# Altium schematic symbol library 直插.SchLib: 23 symbols
Pins are listed as number, name and electrical type; pins without a type are passive.

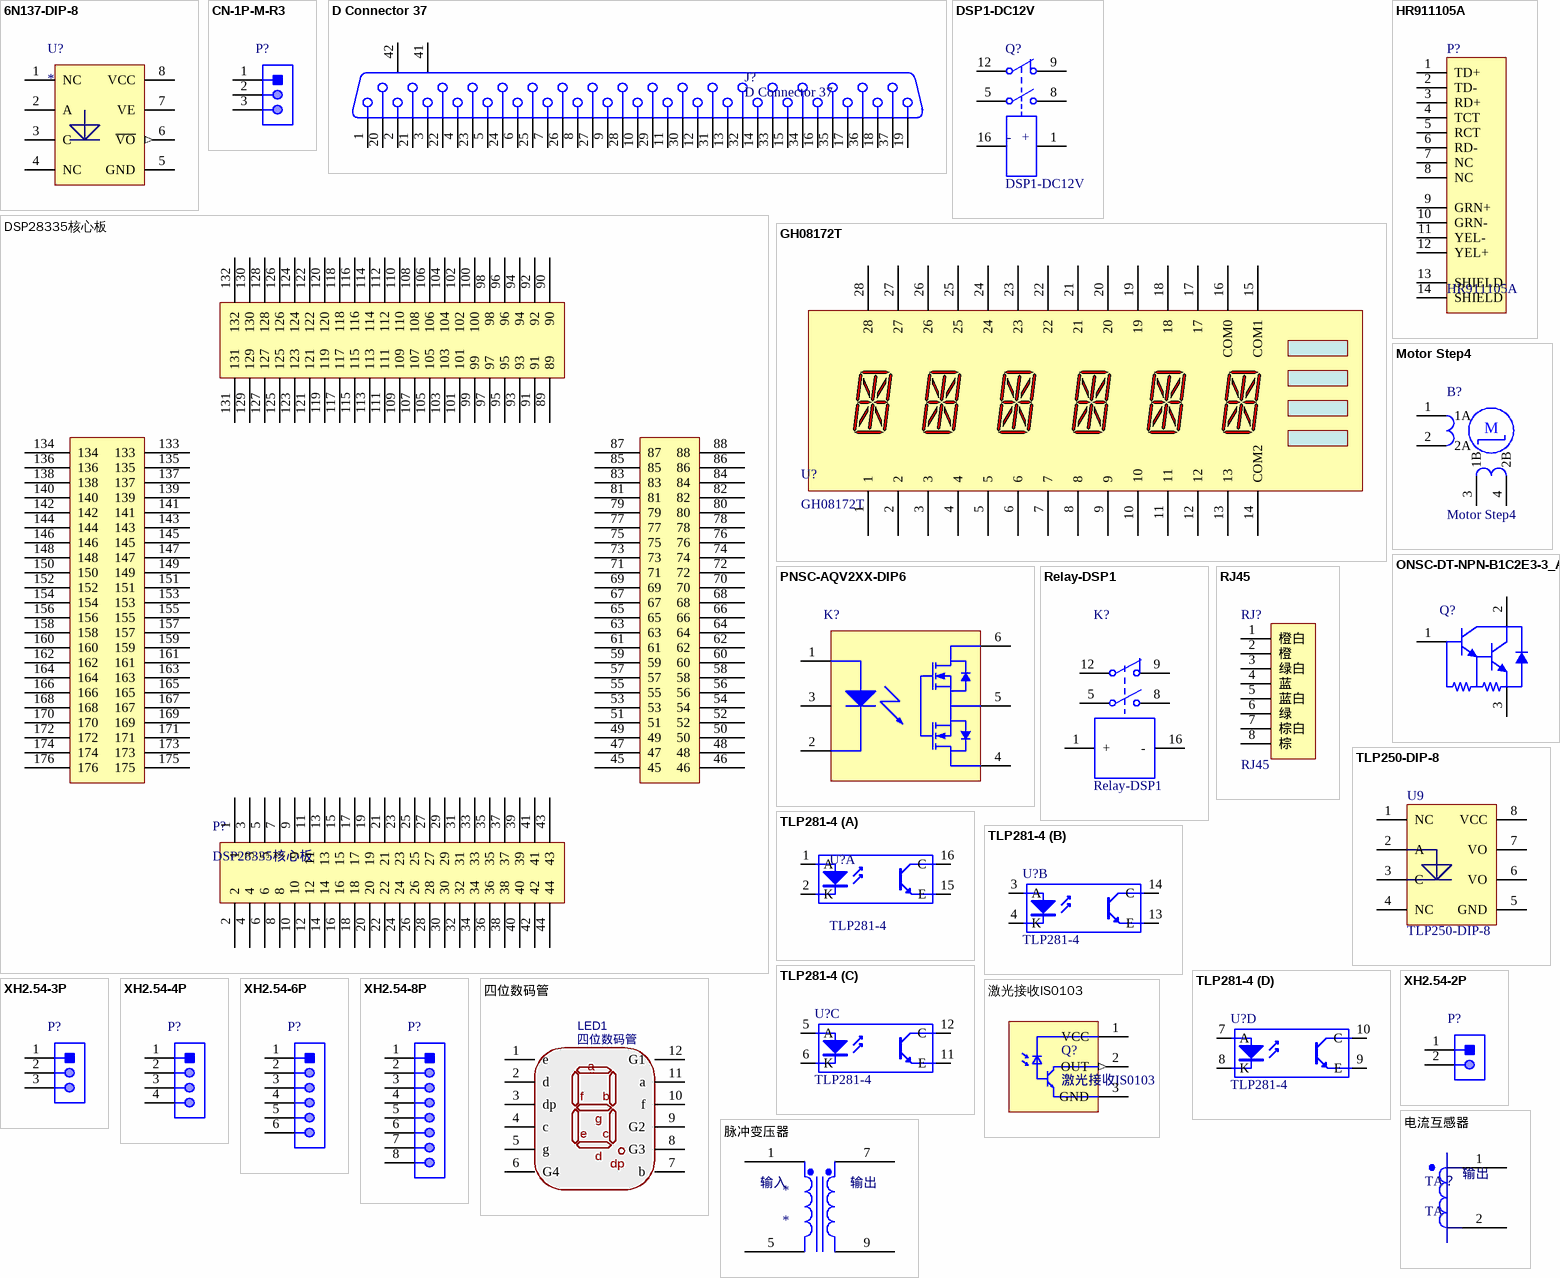
[diagram p0: symbols 6N137-DIP-8 to 脉冲变压器]

## 6N137-DIP-8
designator U?
footprint DIP-8_A (DIP, 8-Leads, Body 10.16x6.85mm, Pitch 2.54mm)
pins: 1 NC, 2 A, 3 C, 4 NC, 5 GND (power), 6 ~{VO} (out), 7 VE (power), 8 VCC (power)

## CN-1P-M-R3
designator P?
pins: 1, 2, 3

## D Connector 37
designator J?
Receptacle Assembly, 25 Position, Right Angle; PackageDocument: U; Positions: 37; Published: 15-Jun-2001; LatestRevisionDate: 17-Jul-2002; LatestRevisionNote: Re-released for DXP Platform.; DatasheetDocument: 19-Mar-1999; PackageReference: 787202; Publisher: Altium Limited; Orientation: Right Angle; Gender: Receptacle
footprint DB37/F
signal-integrity model Connector
pins: 1, 2, 3, 4, 5, 6, 7, 8, 9, 10, 11, 12, 13, 14, 15, 16, 17, 18, 19, 20, 21, 22, 23, 24, 25, 26, 27, 28, 29, 30, 31, 32, 33, 34, 35, 36, 37, 41 MH1, 42 MH2

## DSP1-DC12V
designator Q?
Dual-Pole Single-Throw Relay; Published: 24-Mar-1999; LatestRevisionDate: 17-Jul-2002; LatestRevisionNote: Re-released for DXP Platform.; PackageReference: MODULE6; Publisher: Altium Limited
footprint DSP1-DC12V
simulation model DPSTRELAY (Spice Subcircuit)
pins: 1, 5, 8, 9, 12, 16
text: -; +

## DSP28335核心板
designator P?
pins: 1, 2, 3, 4, 5, 6, 7, 8, 9, 10, 11, 12, 13, 14, 15, 16, 17, 18, 19, 20, 21, 22, 23, 24, 25, 26, 27, 28, 29, 30, 31, 32, 33, 34, 35, 36, 37, 38, 39, 40, 41, 42, 43, 44, 45, 46, 47, 48, 49, 50, 51, 52, 53, 54, 55, 56, 57, 58, 59, 60, 61, 62, 63, 64, 65, 66, 67, 68, 69, 70, 71, 72, 73, 74, 75, 76, 77, 78, 79, 80, 81, 82, 83, 84, 85, 86, 87, 88, 89, 90, 91, 92, 93, 94, 95, 96, 97, 98, 99, 100, 101, 102, 103, 104, 105, 106, 107, 108, 109, 110, 111, 112, 113, 114, 115, 116, 117, 118, 119, 120, 121, 122, 123, 124, 125, 126, 127, 128, 129, 130, 131, 132, 133, 134, 135, 136, 137, 138, 139, 140, 141, 142, 143, 144, 145, 146, 147, 148, 149, 150, 151, 152, 153, 154, 155, 156, 157, 158, 159, 160, 161, 162, 163, 164, 165, 166, 167, 168, 169, 170, 171, 172, 173, 174, 175, 176

## GH08172T
designator U?
footprint GH08172T
pins: 1, 2, 3, 4, 5, 6, 7, 8, 9, 10, 11, 12, 13, 14 COM2, 15 COM1, 16 COM0, 17, 18, 19, 20, 21, 22, 23, 24, 25, 26, 27, 28

## HR911105A
designator P?
HR911105A RJ45 带灯 网络隔离变压器 滤波器; LatestRevisionDate: 17-Jul-2002; LatestRevisionNote: Re-released for DXP Platform.; Publisher: Altium Limited
footprint HR911105A (HR911105A RJ45 带灯 网络隔离变压器 滤波器)
signal-integrity model Connector
pins: 1 TD+, 2 TD-, 3 RD+, 4 TCT, 5 RCT, 6 RD-, 7 NC, 8 NC, 9 GRN+, 10 GRN-, 11 YEL-, 12 YEL+, 13 SHIELD, 14 SHIELD

## Motor Step4
designator B?
Motor Stepper; Published: 24-Mar-1999; LatestRevisionDate: 17-Jul-2002; LatestRevisionNote: Re-released for DXP Platform.; PackageReference: DIP-6; Publisher: Altium Limited; Code_JEDEC: MO-001-AM
footprint DIP-4 (Footprint not found)
pins: 1 1A, 2 2A, 3 1B, 4 2B
text: M

## ONSC-DT-NPN-B1C2E3-3_A
designator Q?
TIP122
footprint ONSC-TO-220-3-221A-09 (FM, 3-Leads, Body 10.3x4.85mm, Pitch 2.54mm)
pins: 1 B, 2 C, 3 E

## PNSC-AQV2XX-DIP6
designator K?
footprint PNSC-DIP6_V (DIP, 6-Leads, Body 6.45x8.85 mm, Pitch2.54 mm)
pins: 1, 2, 3, 4, 5, 6

## Relay-DSP1
designator K?
Dual-Pole Dual-Throw Relay DSP1; Published: 24-Mar-1999; LatestRevisionDate: 17-Jul-2002; LatestRevisionNote: Re-released for DXP Platform.; PackageReference: DIP-P8; Publisher: Altium Limited
footprint DIP-P8/E10 (Dual-Pole Dual-Throw Relay; 8 Leads)
simulation model DPDTRELAY (Spice Subcircuit)
pins: 1 +, 5, 8, 9, 12, 16 -

## RJ45
designator RJ?
Connector T568B接法
footprint RJ-45
pins: 1 橙白, 2 橙, 3 绿白, 4 蓝, 5 蓝白, 6 绿, 7 棕白, 8 棕

## TLP250-DIP-8
designator U9
footprint DIP-8_A (DIP, 8-Leads, Body 10.16x6.85mm, Pitch 2.54mm)
pins: 1 NC, 2 A, 3 C, 4 NC, 5 GND (power), 6 VO, 7 VO, 8 VCC (power)

## TLP281-4
designator U?
16-Pin Phototransistor Optocoupler; Published: 24-Mar-1999; LatestRevisionDate: 04-Mar-2005; LatestRevisionNote: Sch pins 3 & 4 Swapped.; DatasheetVersion: Nov-2003; PackageReference: DIP-4; Publisher: Altium Limited
footprint TLP281-4 (SOIC, 16-Leads, Body 9.9x3.9mm, Pitch 1.27mm, IPC Low Density)
part A pins: 1 A "Anode", 2 K "Cathode", 15 E "Emitter", 16 C "Collector"
part B pins: 3 A "Anode", 4 K "Cathode", 13 E "Emitter", 14 C "Collector"
part C pins: 5 A "Anode", 6 K "Cathode", 11 E "Emitter", 12 C "Collector"
part D pins: 7 A "Anode", 8 K "Cathode", 9 E "Emitter", 10 C "Collector"

## XH2.54-2P
designator P?
footprint XH2.54AW-2P弯 (Male Header, 2-Leads, Body 13.59x10.17mm, Pitch 2.54mm)
pins: 1, 2

## XH2.54-3P
designator P?
footprint XH2.54AW-3P弯 (Male Header, 2-Leads, Body 13.59x10.17mm, Pitch 2.54mm)
pins: 1, 2, 3

## XH2.54-4P
designator P?
footprint XH2.54AW-4P弯 (Male Header, 2-Leads, Body 13.59x10.17mm, Pitch 2.54mm)
pins: 1, 2, 3, 4

## XH2.54-6P
designator P?
footprint XH2.54AW-6P弯 (Male Header, 2-Leads, Body 13.59x10.17mm, Pitch 2.54mm)
pins: 1, 2, 3, 4, 5, 6

## XH2.54-8P
designator P?
footprint XH2.54AW-8P弯 (Male Header, 2-Leads, Body 13.59x10.17mm, Pitch 2.54mm)
pins: 1, 2, 3, 4, 5, 6, 7, 8

## 四位数码管
designator LED1
BOM_Manufacturer: ReliaPro; BOM_Manufacturer Part: FJ3461AH; BOM_Supplier: LCSC; image: //image.lceda.cn/szlcsc/C10708.jpg; BOM_Supplier Part: C10708; spicePre: L
footprint LEDSEG_0.36_4
pins: 1 e, 2 d, 3 dp, 4 c, 5 g, 6 G4, 7 b, 8 G3, 9 G2, 10 f, 11 a, 12 G1

## 激光接收IS0103
designator Q?
footprint 激光接收IS0103 (TO, Flat Index; 3 In-Line, Axial Leads; Body Dia. 4.6mm; Lead Dia. 0.5 mm (max))
pins: 1 VCC (power), 2 OUT (out), 3 GND (power)

## 电流互感器
designator TA？, comment TA
footprint ZMCT101D
pins: 1, 2
text: 输出

## 脉冲变压器
designator *
footprint KMB0121
pins: 1, 1 Pri+, 2 Pri-, 3 Sec+, 4 Sec-, 5, 7, 9
text: 输入; 输出